# Altium integrated library Texas Instruments Interface 1394.IntLib: 47 symbols (part 4 of 17)
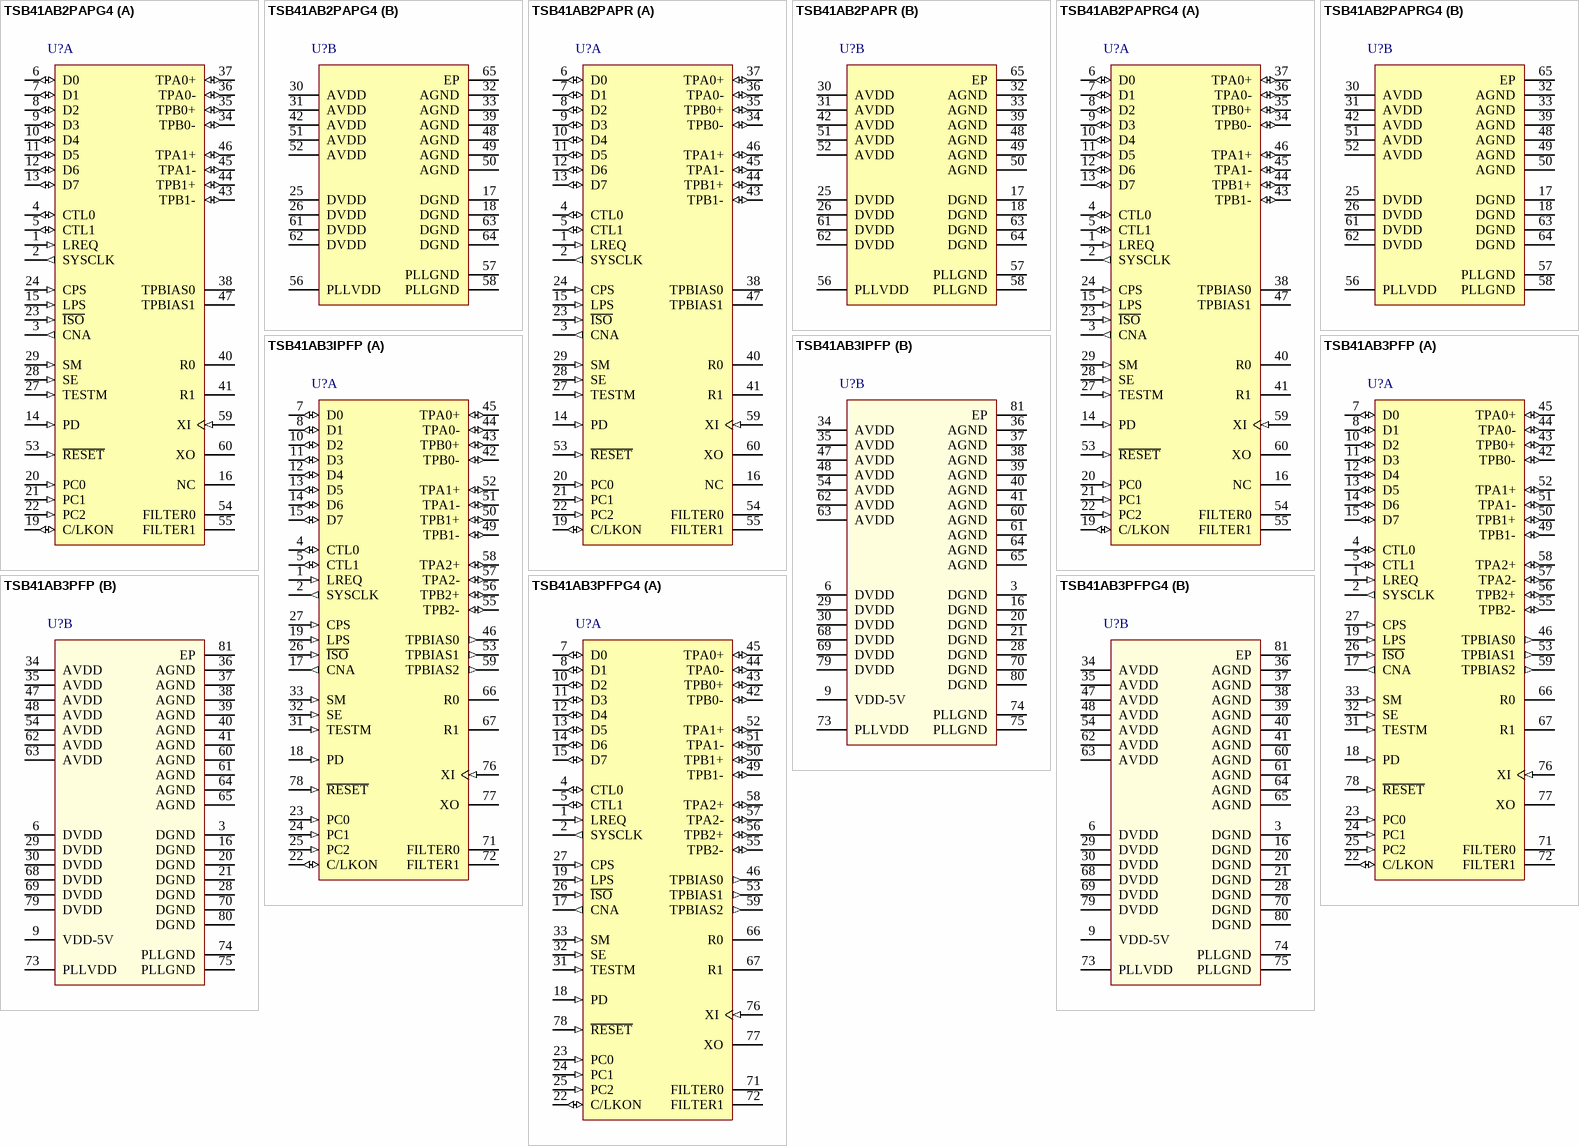
[diagram p14: symbols TSB41AB2PAPG4 to TSB41AB3PFPG4]

## TSB41AB2PAPR
designator U?
400 Mbps IEEE 1394a Two-Port Cable Transceiver / Arbiter, 3.3V, 0 to 70 degC, 64-Pin HTQFP (PAP), Green (RoHS & no Sb/Br); PartNumber: TSB41AB2PAPR; Manufacturer: Texas Instruments; SubFamily: 1394 Physical Layer Controller; Speed(Max)(Mbps): 400; Ports: 2; Supply Voltage(s)(V): 3.3; 1394: True; Rating: Catalog; DatasheetVersion: SLLS424G; PackageVersion: revC, Aug-2003; PackageReference: PAP64-4650X4650TP; PackageDescription: 64-Pin Plastic Quad Flat Pack, 10 x 10 mm Body, 0.5 mm Pitch, Exposed Pad; Mounting Technology: Surface Mount; 1394a: True; Code_JEDEC: MS-026; ComponentLink1Description: Datasheet; ComponentLink1URL: http://www.ti.com/general/docs/lit/getliterature.tsp?genericPartNumber=TSB41AB2&fileType=pdf; ComponentLink2Description: Package Specification; ComponentLink2URL: http://www.ti.com/litv/pdf/mpqf071b
footprint PAP64-4650X4650TP_N (Thin QFP, 64-Leads, Body 10x10mm, Pitch 0.5mm, Thermal Pad 5x5mm, IPC Medium Density)
footprint PAP64-4650X4650TP_L (Thin QFP, 64-Leads, Body 10x10mm, Pitch 0.5mm, Thermal Pad 5x5mm, IPC High Density)
footprint PAP64-4650X4650TP_M (Thin QFP, 64-Leads, Body 10x10mm, Pitch 0.5mm, Thermal Pad 5x5mm, IPC Low Density)
part A pins: 1 LREQ (in) "LLC request input.The LLC uses this input to initiate a service  request to the TSB41AB2.Bus holder is built into this terminal.", 2 SYSCLK (out) "System clock output.Provides a 49.152-MHz clock signal, synchronized with data transfers, to the LLC.", 3 CNA (out) "Cable-not-active output.This terminal is asserted high when there are no ports receiving incoming bias voltage.CNA is not valid at initial power up,until a device hard reset is performed.", 4 CTL0 (io) "Control I/Os.These bidirectional signals control communication between the TSB41AB2 and the LLC. Bus holders are built into these terminals.", 5 CTL1 (io) "Control I/Os.These bidirectional signals control communication between the TSB41AB2 and the LLC. Bus holders are built into these terminals.", 6 D0 (io) "Data I/Os.These are bidirectional data signals between the TSB41AB2 and the LLC.Bus holders are built into these terminals.", 7 D1 (io) "Data I/Os.These are bidirectional data signals between the TSB41AB2 and the LLC.Bus holders are built into these terminals.", 8 D2 (io) "Data I/Os.These are bidirectional data signals between the TSB41AB2 and the LLC.Bus holders are built into these terminals.", 9 D3 (io) "Data I/Os.These are bidirectional data signals between the TSB41AB2 and the LLC.Bus holders are built into these terminals.", 10 D4 (io) "Data I/Os.These are bidirectional data signals between the TSB41AB2 and the LLC.Bus holders are built into these terminals.", 11 D5 (io) "Data I/Os.These are bidirectional data signals between the TSB41AB2 and the LLC.Bus holders are built into these terminals.", 12 D6 (io) "Data I/Os.These are bidirectional data signals between the TSB41AB2 and the LLC.Bus holders are built into these terminals.", 13 D7 (io) "Data I/Os.These are bidirectional data signals between the TSB41AB2 and the LLC.Bus holders are built into these terminals.", 14 PD (in) "Power-down input.A high on this terminal turns off all internal circuitry except the cable-active monitor circuits, which control the CNA output. [see datasheet]", 15 LPS (in) "Link power status input. This terminal is used to monitor the active/power status of the link layer controller and to control the state of the PHY-LLC interface. [see datasheet]", 16 NC "Each of these terminals is not connected to the silicon device.", 19 C/LKON (io) "Bus manager contender programming input and link-on output. On hardware reset, this terminal is used to set the default value of the contender status indicated during self-ID. [see datasheet]", 20 PC0 (in) "Power class programming inputs.On hardware reset, these inputs set the default value of the power class indicated during self-ID. Programming is done by tying these terminals high or low. See Table 9 for encoding.", 21 PC1 (in) "Power class programming inputs.On hardware reset, these inputs set the default value of the power class indicated during self-ID. Programming is done by tying these terminals high or low. See Table 9 for encoding.", 22 PC2 (in) "Power class programming inputs.On hardware reset, these inputs set the default value of the power class indicated during self-ID. Programming is done by tying these terminals high or low. See Table 9 for encoding.", 23 ~{ISO} (in) "Link interface isolation control input.This terminal controls the operation of output differentiation logic on the CTL and D terminals. [see datasheet]", 24 CPS (in) "Cable power status input. This terminal is normally connected to cable power through a 400-k ohm resistor. [see datasheet]", 27 TESTM (in) "Test control input. This input is used in manufacturing test of the TSB41AB2. For normal use this terminal should be tied to VDD through a 1-k ohm resistor.", 28 SE (in) "Test control input. This input is used in manufacturing test of the TSB41AB2. For normal use this terminal may be tied to GND through a 1-k ohm pulldown resistor or it may be tied to GND directly.", 29 SM (in) "Test control input. This input is used in manufacturing test of the TSB41AB2. For normal use this terminal should be tied to GND.", 34 TPB0- (io) "Twisted-pair cable B differential signal terminals. [see datasheet]", 35 TPB0+ (io) "Twisted-pair cable B differential signal terminals. [see datasheet]", 36 TPA0- (io) "Twisted-pair cable A differential signal terminals. [see datasheet]", 37 TPA0+ (io) "Twisted-pair cable A differential signal terminals. [see datasheet]", 38 TPBIAS0 (hiz) "Twisted-pair bias output. [see datasheet]", 40 R0 "Current setting resistor terminals. These terminals are connected through an external resistor to set the internal operating currents and cable driver output currents. [see datasheet]", 41 R1 "Current setting resistor terminals. These terminals are connected through an external resistor to set the internal operating currents and cable driver output currents. [see datasheet]", 43 TPB1- (io) "Twisted-pair cable B differential signal terminals. [see datasheet]", 44 TPB1+ (io) "Twisted-pair cable B differential signal terminals. [see datasheet]", 45 TPA1- (io) "Twisted-pair cable A differential signal terminals. [see datasheet]", 46 TPA1+ (io) "Twisted-pair cable A differential signal terminals. [see datasheet]", 47 TPBIAS1 (hiz) "Twisted-pair bias output. [see datasheet]", 53 ~{RESET} (in) "Logic reset input. Asserting this terminal low resets the internal logic.  [see datasheet]", 54 FILTER0 "PLL filter terminals. [see datasheet]", 55 FILTER1 "PLL filter terminals. [see datasheet]", 59 XI (in) "Crystal oscillator inputs. These terminals connect to a 24.576-MHz parallel resonant fundamental mode crystal. [see datasheet]", 60 XO "Crystal oscillator outputs. These terminals connect to a 24.576-MHz parallel resonant fundamental mode crystal. [see datasheet]"
part B pins: 17 DGND (power) "Digital circuit ground terminals.These terminals should be tied together to the low-impedance circuit board ground plane.", 18 DGND (power) "Digital circuit ground terminals.These terminals should be tied together to the low-impedance circuit board ground plane.", 25 DVDD (power) "Digital circuit power terminals. A combination of high frequency decoupling capacitors near each terminal is suggested, such as paralleled 0.1 uF and 0.001 uF. [see datasheet]", 26 DVDD (power) "Digital circuit power terminals. A combination of high frequency decoupling capacitors near each terminal is suggested, such as paralleled 0.1 uF and 0.001 uF. [see datasheet]", 30 AVDD (power) "Analog circuit power terminals. A combination of high-frequency decoupling capacitors near each terminal are suggested, such as paralleled 0.1 uF and 0.001 uF. [see datasheet]", 31 AVDD (power) "Analog circuit power terminals. A combination of high-frequency decoupling capacitors near each terminal are suggested, such as paralleled 0.1 uF and 0.001 uF. [see datasheet]", 32 AGND (power) "Analog circuit ground terminals.These terminals should be tied together to the low impedance circuit board ground plane.", 33 AGND (power) "Analog circuit ground terminals.These terminals should be tied together to the low impedance circuit board ground plane.", 39 AGND (power) "Analog circuit ground terminals.These terminals should be tied together to the low impedance circuit board ground plane.", 42 AVDD (power) "Analog circuit power terminals. A combination of high-frequency decoupling capacitors near each terminal are suggested, such as paralleled 0.1 uF and 0.001 uF. [see datasheet]", 48 AGND (power) "Analog circuit ground terminals. These terminals should be tied together to the low impedance circuit board ground plane.", 49 AGND (power) "Analog circuit ground terminals. These terminals should be tied together to the low impedance circuit board ground plane.", 50 AGND (power) "Analog circuit ground terminals. These terminals should be tied together to the low impedance circuit board ground plane.", 51 AVDD (power) "Analog circuit power terminals. A combination of high-frequency decoupling capacitors near each terminal are suggested, such as paralleled 0.1 uF and 0.001 uF. [see datasheet]", 52 AVDD (power) "Analog circuit power terminals. A combination of high-frequency decoupling capacitors near each terminal are suggested, such as paralleled 0.1 uF and 0.001 uF. [see datasheet]", 56 PLLVDD (power) "PLL circuit power terminals. A combination of high-frequency decoupling capacitors near each terminal is suggested, such as paralleled 0.1 uF and 0.001 uF. [see datasheet]", 57 PLLGND (power) "PLL circuit ground terminals. These terminals should be tied together to the low-impedance circuit board ground plane.", 58 PLLGND (power) "PLL circuit ground terminals. These terminals should be tied together to the low-impedance circuit board ground plane.", 61 DVDD (power) "Digital circuit power terminals. A combination of high frequency decoupling capacitors near each terminal is suggested, such as paralleled 0.1 uF and 0.001 uF. [see datasheet]", 62 DVDD (power) "Digital circuit power terminals. A combination of high frequency decoupling capacitors near each terminal is suggested, such as paralleled 0.1 uF and 0.001 uF. [see datasheet]", 63 DGND (power) "Digital circuit ground terminals. These terminals should be tied together to the low-impedance circuit board ground plane.", 64 DGND (power) "Digital circuit ground terminals. These terminals should be tied together to the low-impedance circuit board ground plane.", 65 EP "Exposed Thermal Pad"

## TSB41AB2PAPRG4
designator U?
400 Mbps IEEE 1394a Two-Port Cable Transceiver / Arbiter, 3.3V, 0 to 70 degC, 64-Pin HTQFP (PAP), Green (RoHS & no Sb/Br); PartNumber: TSB41AB2PAPRG4; Manufacturer: Texas Instruments; SubFamily: 1394 Physical Layer Controller; Speed(Max)(Mbps): 400; Ports: 2; Supply Voltage(s)(V): 3.3; 1394: True; Rating: Catalog; DatasheetVersion: SLLS424G; PackageVersion: revC, Aug-2003; PackageReference: PAP64-4650X4650TP; PackageDescription: 64-Pin Plastic Quad Flat Pack, 10 x 10 mm Body, 0.5 mm Pitch, Exposed Pad; Mounting Technology: Surface Mount; 1394a: True; Code_JEDEC: MS-026; ComponentLink1Description: Datasheet; ComponentLink1URL: http://www.ti.com/general/docs/lit/getliterature.tsp?genericPartNumber=TSB41AB2&fileType=pdf; ComponentLink2Description: Package Specification; ComponentLink2URL: http://www.ti.com/litv/pdf/mpqf071b
footprint PAP64-4650X4650TP_N (Thin QFP, 64-Leads, Body 10x10mm, Pitch 0.5mm, Thermal Pad 5x5mm, IPC Medium Density)
footprint PAP64-4650X4650TP_L (Thin QFP, 64-Leads, Body 10x10mm, Pitch 0.5mm, Thermal Pad 5x5mm, IPC High Density)
footprint PAP64-4650X4650TP_M (Thin QFP, 64-Leads, Body 10x10mm, Pitch 0.5mm, Thermal Pad 5x5mm, IPC Low Density)
part A pins: 1 LREQ (in) "LLC request input.The LLC uses this input to initiate a service  request to the TSB41AB2.Bus holder is built into this terminal.", 2 SYSCLK (out) "System clock output.Provides a 49.152-MHz clock signal, synchronized with data transfers, to the LLC.", 3 CNA (out) "Cable-not-active output.This terminal is asserted high when there are no ports receiving incoming bias voltage.CNA is not valid at initial power up,until a device hard reset is performed.", 4 CTL0 (io) "Control I/Os.These bidirectional signals control communication between the TSB41AB2 and the LLC. Bus holders are built into these terminals.", 5 CTL1 (io) "Control I/Os.These bidirectional signals control communication between the TSB41AB2 and the LLC. Bus holders are built into these terminals.", 6 D0 (io) "Data I/Os.These are bidirectional data signals between the TSB41AB2 and the LLC.Bus holders are built into these terminals.", 7 D1 (io) "Data I/Os.These are bidirectional data signals between the TSB41AB2 and the LLC.Bus holders are built into these terminals.", 8 D2 (io) "Data I/Os.These are bidirectional data signals between the TSB41AB2 and the LLC.Bus holders are built into these terminals.", 9 D3 (io) "Data I/Os.These are bidirectional data signals between the TSB41AB2 and the LLC.Bus holders are built into these terminals.", 10 D4 (io) "Data I/Os.These are bidirectional data signals between the TSB41AB2 and the LLC.Bus holders are built into these terminals.", 11 D5 (io) "Data I/Os.These are bidirectional data signals between the TSB41AB2 and the LLC.Bus holders are built into these terminals.", 12 D6 (io) "Data I/Os.These are bidirectional data signals between the TSB41AB2 and the LLC.Bus holders are built into these terminals.", 13 D7 (io) "Data I/Os.These are bidirectional data signals between the TSB41AB2 and the LLC.Bus holders are built into these terminals.", 14 PD (in) "Power-down input.A high on this terminal turns off all internal circuitry except the cable-active monitor circuits, which control the CNA output. [see datasheet]", 15 LPS (in) "Link power status input. This terminal is used to monitor the active/power status of the link layer controller and to control the state of the PHY-LLC interface. [see datasheet]", 16 NC "Each of these terminals is not connected to the silicon device.", 19 C/LKON (io) "Bus manager contender programming input and link-on output. On hardware reset, this terminal is used to set the default value of the contender status indicated during self-ID. [see datasheet]", 20 PC0 (in) "Power class programming inputs.On hardware reset, these inputs set the default value of the power class indicated during self-ID. Programming is done by tying these terminals high or low. See Table 9 for encoding.", 21 PC1 (in) "Power class programming inputs.On hardware reset, these inputs set the default value of the power class indicated during self-ID. Programming is done by tying these terminals high or low. See Table 9 for encoding.", 22 PC2 (in) "Power class programming inputs.On hardware reset, these inputs set the default value of the power class indicated during self-ID. Programming is done by tying these terminals high or low. See Table 9 for encoding.", 23 ~{ISO} (in) "Link interface isolation control input.This terminal controls the operation of output differentiation logic on the CTL and D terminals. [see datasheet]", 24 CPS (in) "Cable power status input. This terminal is normally connected to cable power through a 400-k ohm resistor. [see datasheet]", 27 TESTM (in) "Test control input. This input is used in manufacturing test of the TSB41AB2. For normal use this terminal should be tied to VDD through a 1-k ohm resistor.", 28 SE (in) "Test control input. This input is used in manufacturing test of the TSB41AB2. For normal use this terminal may be tied to GND through a 1-k ohm pulldown resistor or it may be tied to GND directly.", 29 SM (in) "Test control input. This input is used in manufacturing test of the TSB41AB2. For normal use this terminal should be tied to GND.", 34 TPB0- (io) "Twisted-pair cable B differential signal terminals. [see datasheet]", 35 TPB0+ (io) "Twisted-pair cable B differential signal terminals. [see datasheet]", 36 TPA0- (io) "Twisted-pair cable A differential signal terminals. [see datasheet]", 37 TPA0+ (io) "Twisted-pair cable A differential signal terminals. [see datasheet]", 38 TPBIAS0 (hiz) "Twisted-pair bias output. [see datasheet]", 40 R0 "Current setting resistor terminals. These terminals are connected through an external resistor to set the internal operating currents and cable driver output currents. [see datasheet]", 41 R1 "Current setting resistor terminals. These terminals are connected through an external resistor to set the internal operating currents and cable driver output currents. [see datasheet]", 43 TPB1- (io) "Twisted-pair cable B differential signal terminals. [see datasheet]", 44 TPB1+ (io) "Twisted-pair cable B differential signal terminals. [see datasheet]", 45 TPA1- (io) "Twisted-pair cable A differential signal terminals. [see datasheet]", 46 TPA1+ (io) "Twisted-pair cable A differential signal terminals. [see datasheet]", 47 TPBIAS1 (hiz) "Twisted-pair bias output. [see datasheet]", 53 ~{RESET} (in) "Logic reset input. Asserting this terminal low resets the internal logic.  [see datasheet]", 54 FILTER0 "PLL filter terminals. [see datasheet]", 55 FILTER1 "PLL filter terminals. [see datasheet]", 59 XI (in) "Crystal oscillator inputs. These terminals connect to a 24.576-MHz parallel resonant fundamental mode crystal. [see datasheet]", 60 XO "Crystal oscillator outputs. These terminals connect to a 24.576-MHz parallel resonant fundamental mode crystal. [see datasheet]"
part B pins: 17 DGND (power) "Digital circuit ground terminals.These terminals should be tied together to the low-impedance circuit board ground plane.", 18 DGND (power) "Digital circuit ground terminals.These terminals should be tied together to the low-impedance circuit board ground plane.", 25 DVDD (power) "Digital circuit power terminals. A combination of high frequency decoupling capacitors near each terminal is suggested, such as paralleled 0.1 uF and 0.001 uF. [see datasheet]", 26 DVDD (power) "Digital circuit power terminals. A combination of high frequency decoupling capacitors near each terminal is suggested, such as paralleled 0.1 uF and 0.001 uF. [see datasheet]", 30 AVDD (power) "Analog circuit power terminals. A combination of high-frequency decoupling capacitors near each terminal are suggested, such as paralleled 0.1 uF and 0.001 uF. [see datasheet]", 31 AVDD (power) "Analog circuit power terminals. A combination of high-frequency decoupling capacitors near each terminal are suggested, such as paralleled 0.1 uF and 0.001 uF. [see datasheet]", 32 AGND (power) "Analog circuit ground terminals.These terminals should be tied together to the low impedance circuit board ground plane.", 33 AGND (power) "Analog circuit ground terminals.These terminals should be tied together to the low impedance circuit board ground plane.", 39 AGND (power) "Analog circuit ground terminals.These terminals should be tied together to the low impedance circuit board ground plane.", 42 AVDD (power) "Analog circuit power terminals. A combination of high-frequency decoupling capacitors near each terminal are suggested, such as paralleled 0.1 uF and 0.001 uF. [see datasheet]", 48 AGND (power) "Analog circuit ground terminals. These terminals should be tied together to the low impedance circuit board ground plane.", 49 AGND (power) "Analog circuit ground terminals. These terminals should be tied together to the low impedance circuit board ground plane.", 50 AGND (power) "Analog circuit ground terminals. These terminals should be tied together to the low impedance circuit board ground plane.", 51 AVDD (power) "Analog circuit power terminals. A combination of high-frequency decoupling capacitors near each terminal are suggested, such as paralleled 0.1 uF and 0.001 uF. [see datasheet]", 52 AVDD (power) "Analog circuit power terminals. A combination of high-frequency decoupling capacitors near each terminal are suggested, such as paralleled 0.1 uF and 0.001 uF. [see datasheet]", 56 PLLVDD (power) "PLL circuit power terminals. A combination of high-frequency decoupling capacitors near each terminal is suggested, such as paralleled 0.1 uF and 0.001 uF. [see datasheet]", 57 PLLGND (power) "PLL circuit ground terminals. These terminals should be tied together to the low-impedance circuit board ground plane.", 58 PLLGND (power) "PLL circuit ground terminals. These terminals should be tied together to the low-impedance circuit board ground plane.", 61 DVDD (power) "Digital circuit power terminals. A combination of high frequency decoupling capacitors near each terminal is suggested, such as paralleled 0.1 uF and 0.001 uF. [see datasheet]", 62 DVDD (power) "Digital circuit power terminals. A combination of high frequency decoupling capacitors near each terminal is suggested, such as paralleled 0.1 uF and 0.001 uF. [see datasheet]", 63 DGND (power) "Digital circuit ground terminals. These terminals should be tied together to the low-impedance circuit board ground plane.", 64 DGND (power) "Digital circuit ground terminals. These terminals should be tied together to the low-impedance circuit board ground plane.", 65 EP "Exposed Thermal Pad"

## TSB41AB3IPFP
designator U?
400 Mbps IEEE 1394a Three-Port Cable Transceiver / Arbiter, 3.3V, -40 to 85 degC, 80-Pin HTQFP (PFP); PartNumber: TSB41AB3IPFP; Manufacturer: Texas Instruments; SubFamily: 1394 Physical Layer Controller; Speed(Max)(Mbps): 400; Ports: 3; Supply Voltage(s)(V): 3.3; 1394: True; Rating: Catalog; DatasheetVersion: SLLS418I; PackageVersion: revC, Jul-2011; PackageReference: PFP80-5450X5450TP; PackageDescription: 80-Pin Plastic Quad Flat Pack PowerPAD; Mounting Technology: Surface Mount; 1394a: True; Code_JEDEC: MS-026; ComponentLink1Description: Datasheet; ComponentLink1URL: http://www.ti.com/general/docs/lit/getliterature.tsp?genericPartNumber=TSB41AB3&fileType=pdf; ComponentLink2Description: Package Specification; ComponentLink2URL: http://www.ti.com/lit/ml/mpqf049b/mpqf049b.pdf
footprint PFP80-5450X5450TP_N (Thin QFP, 80-Leads, Body 12x12mm, Pitch 0.5mm, IPC Medium Density)
footprint PFP80-5450X5450TP_L (Thin QFP, 80-Leads, Body 12x12mm, Pitch 0.5mm, IPC High Density)
footprint PFP80-5450X5450TP_M (Thin QFP, 80-Leads, Body 12x12mm, Pitch 0.5mm, IPC Low Density)
part A pins: 1 LREQ (in) "LLC request input. The LLC uses this input to initiate a service request to the TSB41AB3. Bus holder is built into this terminal.", 2 SYSCLK (out) "System clock output. Provides a 49.152-MHz clock signal, synchronized with data transfers, to the LLC.", 4 CTL0 (io) "Control I/Os. These bidirectional signals control communication between the TSB41AB3 and the LLC.Bus holders are built into these terminals.", 5 CTL1 (io) "Control I/Os. These bidirectional signals control communication between the TSB41AB3 and the LLC.Bus holders are built into these terminals.", 7 D0 (io) "Data I/Os. These are bidirectional data signals between the TSB41AB3 and the LLC. Bus holders are built into these terminals.", 8 D1 (io) "Data I/Os. These are bidirectional data signals between the TSB41AB3 and the LLC. Bus holders are built into these terminals.", 10 D2 (io) "Data I/Os. These are bidirectional data signals between the TSB41AB3 and the LLC. Bus holders are built into these terminals.", 11 D3 (io) "Data I/Os. These are bidirectional data signals between the TSB41AB3 and the LLC. Bus holders are built into these terminals.", 12 D4 (io) "Data I/Os. These are bidirectional data signals between the TSB41AB3 and the LLC. Bus holders are built into these terminals.", 13 D5 (io) "Data I/Os. These are bidirectional data signals between the TSB41AB3 and the LLC. Bus holders are built into these terminals.", 14 D6 (io) "Data I/Os. These are bidirectional data signals between the TSB41AB3 and the LLC. Bus holders are built into these terminals.", 15 D7 (io) "Data I/Os. These are bidirectional data signals between the TSB41AB3 and the LLC. Bus holders are built into these terminals.", 17 CNA (out) "Cable not active output. This terminal is asserted high when there are no ports receiving incoming bias voltage.", 18 PD (in) "Power-down input. A high on this terminal turns off all internal circuitry except the cable-active monitor circuits, which control the CNA output. [see datasheet]", 19 LPS (in) "Link power status input. This terminal is used to monitor the active/power status of the link layer controller and to control the state of the PHY-LLC interface. [see datasheet]", 22 C/LKON (io) "Bus manager contender programming input and link-on output. On hardware reset, this terminal is used to set the default value of the contender status indicated during self-ID. [see datasheet]", 23 PC0 (in) "Power class programming inputs. On hardware reset, these inputs set the default value of the power class indicated during self-ID. [see datasheet]", 24 PC1 (in) "Power class programming inputs. On hardware reset, these inputs set the default value of the power class indicated during self-ID. [see datasheet]", 25 PC2 (in) "Power class programming inputs. On hardware reset, these inputs set the default value of the power class indicated during self-ID. [see datasheet]", 26 ~{ISO} (in) "Link interface isolation control input. This terminal controls the operation of output differentiation logic on the CTL and D terminals. [see datasheet]", 27 CPS (in) "Cable power status input. This terminal is normally connected to cable power through a 400-k ohm resistor. [see datasheet]", 31 TESTM (in) "Test control input. This input is used in the manufacturing test of the TSB41AB3. For normal use this terminal is tied to VDD through a 1-kohm resistor.", 32 SE (in) "Test control input. This input is used in manufacturing test of the TSB41AB3. For normal use this terminal is tied to GND through a 1-k ohm pulldown resistor.", 33 SM (in) "Test control input. This input is used in the manufacturing test of the TSB41AB3. For normal use this terminal is tied to GND", 42 TPB0- (io) "Twisted-pair cable B differential-signal terminals. [see datasheet]", 43 TPB0+ (io) "Twisted-pair cable B differential-signal terminals. [see datasheet]", 44 TPA0- (io) "Twisted-pair cable A differential-signal terminals. [see datasheet]", 45 TPA0+ (io) "Twisted-pair cable A differential-signal terminals. [see datasheet]", 46 TPBIAS0 (out) "Twisted-pair bias output. This provides the 1. [see datasheet]", 49 TPB1- (io) "Twisted-pair cable B differential-signal terminals. [see datasheet]", 50 TPB1+ (io) "Twisted-pair cable B differential-signal terminals. [see datasheet]", 51 TPA1- (io) "Twisted-pair cable A differential-signal terminals. [see datasheet]", 52 TPA1+ (io) "Twisted-pair cable A differential-signal terminals. [see datasheet]", 53 TPBIAS1 (out) "Twisted-pair bias output. This provides the 1. [see datasheet]", 55 TPB2- (io) "Twisted-pair cable B differential-signal terminals. [see datasheet]", 56 TPB2+ (io) "Twisted-pair cable B differential-signal terminals. [see datasheet]", 57 TPA2- (io) "Twisted-pair cable A differential-signal terminals. [see datasheet]", 58 TPA2+ (io) "Twisted-pair cable A differential-signal terminals. [see datasheet]", 59 TPBIAS2 (out) "Twisted-pair bias output. This provides the 1. [see datasheet]", 66 R0 "Current setting resistor terminals. These terminals are connected to an external resistance to set the internal operating currents and cable driver output currents. A resistance of 6. [see datasheet]", 67 R1 "Current setting resistor terminals. These terminals are connected to an external resistance to set the internal operating currents and cable driver output currents. A resistance of 6. [see datasheet]", 71 FILTER0 "PLL filter terminals. [see datasheet]", 72 FILTER1 "PLL filter terminals. [see datasheet]", 76 XI (in) "Crystal oscillator inputs. These terminals connect to a 24.576-MHz parallel resonant fundamental mode crystal. [see datasheet]", 77 XO "Crystal oscillator outputs. These terminals connect to a 24.576-MHz parallel resonant fundamental mode crystal. [see datasheet]", 78 ~{RESET} (in) "Logic reset input. Asserting this terminal low resets the internal logic. [see datasheet]"
part B pins: 3 DGND (power) "Digital circuit ground terminals. These terminals must be tied together to a low-impedance point on the circuit board ground plane.", 6 DVDD (power) "Digital circuit power terminals. A combination of high-frequency decoupling capacitors near each terminal is suggested, such as paralleled 0.1 uF and 0.001 µF. [see datasheet]", 9 VDD-5V (power) "5-V VDD terminal. This terminal must be connected to the LLC VDD supply when a 5-V LLC is used, and connected to the PHY DVDD when a 3-V LLC is used. [see datasheet]", 16 DGND (power) "Digital circuit ground terminals. These terminals must be tied together to a low-impedance point on the circuit board ground plane.", 20 DGND (power) "Digital circuit ground terminals. These terminals must be tied together to a low-impedance point on the circuit board ground plane.", 21 DGND (power) "Digital circuit ground terminals. These terminals must be tied together to a low-impedance point on the circuit board ground plane.", 28 DGND (power) "Digital circuit ground terminals. These terminals must be tied together to a low-impedance point on the circuit board ground plane.", 29 DVDD (power) "Digital circuit power terminals. A combination of high-frequency decoupling capacitors near each terminal is suggested, such as paralleled 0.1 uF and 0.001 µF. [see datasheet]", 30 DVDD (power) "Digital circuit power terminals. A combination of high-frequency decoupling capacitors near each terminal is suggested, such as paralleled 0.1 uF and 0.001 µF. [see datasheet]", 34 AVDD (power) "Analog circuit power terminals. A combination of high-frequency decoupling capacitors near each terminal are suggested, such as paralleled 0.1 uF and 0.001 uF. [see datasheet]", 35 AVDD (power) "Analog circuit power terminals. A combination of high-frequency decoupling capacitors near each terminal are suggested, such as paralleled 0.1 uF and 0.001 uF. [see datasheet]", 36 AGND (power) "Analog circuit ground terminals. These terminals must be tied together to the low-impedance circuit board ground plane.", 37 AGND (power) "Analog circuit ground terminals. These terminals must be tied together to the low-impedance circuit board ground plane.", 38 AGND (power) "Analog circuit ground terminals. These terminals must be tied together to the low-impedance circuit board ground plane.", 39 AGND (power) "Analog circuit ground terminals. These terminals must be tied together to the low-impedance circuit board ground plane.", 40 AGND (power) "Analog circuit ground terminals. These terminals must be tied together to the low-impedance circuit board ground plane.", 41 AGND (power) "Analog circuit ground terminals. These terminals must be tied together to the low-impedance circuit board ground plane.", 47 AVDD (power) "Analog circuit power terminals. A combination of high-frequency decoupling capacitors near each terminal are suggested, such as paralleled 0.1 uF and 0.001 uF. [see datasheet]", 48 AVDD (power) "Analog circuit power terminals. A combination of high-frequency decoupling capacitors near each terminal are suggested, such as paralleled 0.1 uF and 0.001 uF. [see datasheet]", 54 AVDD (power) "Analog circuit power terminals. A combination of high-frequency decoupling capacitors near each terminal are suggested, such as paralleled 0.1 uF and 0.001 uF. [see datasheet]", 60 AGND (power) "Analog circuit ground terminals. These terminals must be tied together to the low-impedance circuit board ground plane.", 61 AGND (power) "Analog circuit ground terminals. These terminals must be tied together to the low-impedance circuit board ground plane.", 62 AVDD (power) "Analog circuit power terminals. A combination of high-frequency decoupling capacitors near each terminal are suggested, such as paralleled 0.1 uF and 0.001 uF. [see datasheet]", 63 AVDD (power) "Analog circuit power terminals. A combination of high-frequency decoupling capacitors near each terminal are suggested, such as paralleled 0.1 uF and 0.001 uF. [see datasheet]", 64 AGND (power) "Analog circuit ground terminals. These terminals must be tied together to the low-impedance circuit board ground plane.", 65 AGND (power) "Analog circuit ground terminals. These terminals must be tied together to the low-impedance circuit board ground plane.", 68 DVDD (power) "Digital circuit power terminals. A combination of high-frequency decoupling capacitors near each terminal is suggested, such as paralleled 0.1 uF and 0.001 µF. [see datasheet]", 69 DVDD (power) "Digital circuit power terminals. A combination of high-frequency decoupling capacitors near each terminal is suggested, such as paralleled 0.1 uF and 0.001 µF. [see datasheet]", 70 DGND (power) "Digital circuit ground terminals. These terminals must be tied together to a low-impedance point on the circuit board ground plane.", 73 PLLVDD (power) "PLL circuit power terminals. A combination of high-frequency decoupling capacitors near each terminal are suggested, such as paralleled 0.1 uF and 0.001 uF. [see datasheet]", 74 PLLGND (power) "Digital circuit ground terminals. These terminals must be tied together to a low-impedance point on the circuit board ground plane.", 75 PLLGND (power) "Digital circuit ground terminals. These terminals must be tied together to a low-impedance point on the circuit board ground plane.", 79 DVDD (power) "Digital circuit power terminals. A combination of high-frequency decoupling capacitors near each terminal is suggested, such as paralleled 0.1 uF and 0.001 µF. [see datasheet]", 80 DGND (power) "Digital circuit ground terminals. These terminals must be tied together to a low-impedance point on the circuit board ground plane.", 81 EP (power) "Exposed Thermal Pad"

## TSB41AB3PFP
designator U?
400 Mbps IEEE 1394a Three-Port Cable Transceiver / Arbiter, 3.3V, 0 to 70 degC, 80-Pin HTQFP (PFP), Green (RoHS & no Sb/Br); PartNumber: TSB41AB3PFP; Manufacturer: Texas Instruments; SubFamily: 1394 Physical Layer Controller; Speed(Max)(Mbps): 400; Ports: 3; Supply Voltage(s)(V): 3.3; 1394: True; Rating: Catalog; DatasheetVersion: SLLS418I; PackageVersion: revC, Jul-2011; PackageReference: PFP80-5450X5450TP; PackageDescription: 80-Pin Plastic Quad Flat Pack PowerPAD; Mounting Technology: Surface Mount; 1394a: True; Code_JEDEC: MS-026; ComponentLink1Description: Datasheet; ComponentLink1URL: http://www.ti.com/general/docs/lit/getliterature.tsp?genericPartNumber=TSB41AB3&fileType=pdf; ComponentLink2Description: Package Specification; ComponentLink2URL: http://www.ti.com/lit/ml/mpqf049b/mpqf049b.pdf
footprint PFP80-5450X5450TP_N (Thin QFP, 80-Leads, Body 12x12mm, Pitch 0.5mm, IPC Medium Density)
footprint PFP80-5450X5450TP_L (Thin QFP, 80-Leads, Body 12x12mm, Pitch 0.5mm, IPC High Density)
footprint PFP80-5450X5450TP_M (Thin QFP, 80-Leads, Body 12x12mm, Pitch 0.5mm, IPC Low Density)
part A pins: 1 LREQ (in) "LLC request input. The LLC uses this input to initiate a service request to the TSB41AB3. Bus holder is built into this terminal.", 2 SYSCLK (out) "System clock output. Provides a 49.152-MHz clock signal, synchronized with data transfers, to the LLC.", 4 CTL0 (io) "Control I/Os. These bidirectional signals control communication between the TSB41AB3 and the LLC.Bus holders are built into these terminals.", 5 CTL1 (io) "Control I/Os. These bidirectional signals control communication between the TSB41AB3 and the LLC.Bus holders are built into these terminals.", 7 D0 (io) "Data I/Os. These are bidirectional data signals between the TSB41AB3 and the LLC. Bus holders are built into these terminals.", 8 D1 (io) "Data I/Os. These are bidirectional data signals between the TSB41AB3 and the LLC. Bus holders are built into these terminals.", 10 D2 (io) "Data I/Os. These are bidirectional data signals between the TSB41AB3 and the LLC. Bus holders are built into these terminals.", 11 D3 (io) "Data I/Os. These are bidirectional data signals between the TSB41AB3 and the LLC. Bus holders are built into these terminals.", 12 D4 (io) "Data I/Os. These are bidirectional data signals between the TSB41AB3 and the LLC. Bus holders are built into these terminals.", 13 D5 (io) "Data I/Os. These are bidirectional data signals between the TSB41AB3 and the LLC. Bus holders are built into these terminals.", 14 D6 (io) "Data I/Os. These are bidirectional data signals between the TSB41AB3 and the LLC. Bus holders are built into these terminals.", 15 D7 (io) "Data I/Os. These are bidirectional data signals between the TSB41AB3 and the LLC. Bus holders are built into these terminals.", 17 CNA (out) "Cable not active output. This terminal is asserted high when there are no ports receiving incoming bias voltage.", 18 PD (in) "Power-down input. A high on this terminal turns off all internal circuitry except the cable-active monitor circuits, which control the CNA output. [see datasheet]", 19 LPS (in) "Link power status input. This terminal is used to monitor the active/power status of the link layer controller and to control the state of the PHY-LLC interface. [see datasheet]", 22 C/LKON (io) "Bus manager contender programming input and link-on output. On hardware reset, this terminal is used to set the default value of the contender status indicated during self-ID. [see datasheet]", 23 PC0 (in) "Power class programming inputs. On hardware reset, these inputs set the default value of the power class indicated during self-ID. [see datasheet]", 24 PC1 (in) "Power class programming inputs. On hardware reset, these inputs set the default value of the power class indicated during self-ID. [see datasheet]", 25 PC2 (in) "Power class programming inputs. On hardware reset, these inputs set the default value of the power class indicated during self-ID. [see datasheet]", 26 ~{ISO} (in) "Link interface isolation control input. This terminal controls the operation of output differentiation logic on the CTL and D terminals. [see datasheet]", 27 CPS (in) "Cable power status input. This terminal is normally connected to cable power through a 400-k ohm resistor. [see datasheet]", 31 TESTM (in) "Test control input. This input is used in the manufacturing test of the TSB41AB3. For normal use this terminal is tied to VDD through a 1-kohm resistor.", 32 SE (in) "Test control input. This input is used in manufacturing test of the TSB41AB3. For normal use this terminal is tied to GND through a 1-k ohm pulldown resistor.", 33 SM (in) "Test control input. This input is used in the manufacturing test of the TSB41AB3. For normal use this terminal is tied to GND", 42 TPB0- (io) "Twisted-pair cable B differential-signal terminals. [see datasheet]", 43 TPB0+ (io) "Twisted-pair cable B differential-signal terminals. [see datasheet]", 44 TPA0- (io) "Twisted-pair cable A differential-signal terminals. [see datasheet]", 45 TPA0+ (io) "Twisted-pair cable A differential-signal terminals. [see datasheet]", 46 TPBIAS0 (out) "Twisted-pair bias output. This provides the 1. [see datasheet]", 49 TPB1- (io) "Twisted-pair cable B differential-signal terminals. [see datasheet]", 50 TPB1+ (io) "Twisted-pair cable B differential-signal terminals. [see datasheet]", 51 TPA1- (io) "Twisted-pair cable A differential-signal terminals. [see datasheet]", 52 TPA1+ (io) "Twisted-pair cable A differential-signal terminals. [see datasheet]", 53 TPBIAS1 (out) "Twisted-pair bias output. This provides the 1. [see datasheet]", 55 TPB2- (io) "Twisted-pair cable B differential-signal terminals. [see datasheet]", 56 TPB2+ (io) "Twisted-pair cable B differential-signal terminals. [see datasheet]", 57 TPA2- (io) "Twisted-pair cable A differential-signal terminals. [see datasheet]", 58 TPA2+ (io) "Twisted-pair cable A differential-signal terminals. [see datasheet]", 59 TPBIAS2 (out) "Twisted-pair bias output. This provides the 1. [see datasheet]", 66 R0 "Current setting resistor terminals. These terminals are connected to an external resistance to set the internal operating currents and cable driver output currents. A resistance of 6. [see datasheet]", 67 R1 "Current setting resistor terminals. These terminals are connected to an external resistance to set the internal operating currents and cable driver output currents. A resistance of 6. [see datasheet]", 71 FILTER0 "PLL filter terminals. [see datasheet]", 72 FILTER1 "PLL filter terminals. [see datasheet]", 76 XI (in) "Crystal oscillator inputs. These terminals connect to a 24.576-MHz parallel resonant fundamental mode crystal. [see datasheet]", 77 XO "Crystal oscillator outputs. These terminals connect to a 24.576-MHz parallel resonant fundamental mode crystal. [see datasheet]", 78 ~{RESET} (in) "Logic reset input. Asserting this terminal low resets the internal logic. [see datasheet]"
part B pins: 3 DGND (power) "Digital circuit ground terminals. These terminals must be tied together to a low-impedance point on the circuit board ground plane.", 6 DVDD (power) "Digital circuit power terminals. A combination of high-frequency decoupling capacitors near each terminal is suggested, such as paralleled 0.1 uF and 0.001 µF. [see datasheet]", 9 VDD-5V (power) "5-V VDD terminal. This terminal must be connected to the LLC VDD supply when a 5-V LLC is used, and connected to the PHY DVDD when a 3-V LLC is used. [see datasheet]", 16 DGND (power) "Digital circuit ground terminals. These terminals must be tied together to a low-impedance point on the circuit board ground plane.", 20 DGND (power) "Digital circuit ground terminals. These terminals must be tied together to a low-impedance point on the circuit board ground plane.", 21 DGND (power) "Digital circuit ground terminals. These terminals must be tied together to a low-impedance point on the circuit board ground plane.", 28 DGND (power) "Digital circuit ground terminals. These terminals must be tied together to a low-impedance point on the circuit board ground plane.", 29 DVDD (power) "Digital circuit power terminals. A combination of high-frequency decoupling capacitors near each terminal is suggested, such as paralleled 0.1 uF and 0.001 µF. [see datasheet]", 30 DVDD (power) "Digital circuit power terminals. A combination of high-frequency decoupling capacitors near each terminal is suggested, such as paralleled 0.1 uF and 0.001 µF. [see datasheet]", 34 AVDD (power) "Analog circuit power terminals. A combination of high-frequency decoupling capacitors near each terminal are suggested, such as paralleled 0.1 uF and 0.001 uF. [see datasheet]", 35 AVDD (power) "Analog circuit power terminals. A combination of high-frequency decoupling capacitors near each terminal are suggested, such as paralleled 0.1 uF and 0.001 uF. [see datasheet]", 36 AGND (power) "Analog circuit ground terminals. These terminals must be tied together to the low-impedance circuit board ground plane.", 37 AGND (power) "Analog circuit ground terminals. These terminals must be tied together to the low-impedance circuit board ground plane.", 38 AGND (power) "Analog circuit ground terminals. These terminals must be tied together to the low-impedance circuit board ground plane.", 39 AGND (power) "Analog circuit ground terminals. These terminals must be tied together to the low-impedance circuit board ground plane.", 40 AGND (power) "Analog circuit ground terminals. These terminals must be tied together to the low-impedance circuit board ground plane.", 41 AGND (power) "Analog circuit ground terminals. These terminals must be tied together to the low-impedance circuit board ground plane.", 47 AVDD (power) "Analog circuit power terminals. A combination of high-frequency decoupling capacitors near each terminal are suggested, such as paralleled 0.1 uF and 0.001 uF. [see datasheet]", 48 AVDD (power) "Analog circuit power terminals. A combination of high-frequency decoupling capacitors near each terminal are suggested, such as paralleled 0.1 uF and 0.001 uF. [see datasheet]", 54 AVDD (power) "Analog circuit power terminals. A combination of high-frequency decoupling capacitors near each terminal are suggested, such as paralleled 0.1 uF and 0.001 uF. [see datasheet]", 60 AGND (power) "Analog circuit ground terminals. These terminals must be tied together to the low-impedance circuit board ground plane.", 61 AGND (power) "Analog circuit ground terminals. These terminals must be tied together to the low-impedance circuit board ground plane.", 62 AVDD (power) "Analog circuit power terminals. A combination of high-frequency decoupling capacitors near each terminal are suggested, such as paralleled 0.1 uF and 0.001 uF. [see datasheet]", 63 AVDD (power) "Analog circuit power terminals. A combination of high-frequency decoupling capacitors near each terminal are suggested, such as paralleled 0.1 uF and 0.001 uF. [see datasheet]", 64 AGND (power) "Analog circuit ground terminals. These terminals must be tied together to the low-impedance circuit board ground plane.", 65 AGND (power) "Analog circuit ground terminals. These terminals must be tied together to the low-impedance circuit board ground plane.", 68 DVDD (power) "Digital circuit power terminals. A combination of high-frequency decoupling capacitors near each terminal is suggested, such as paralleled 0.1 uF and 0.001 µF. [see datasheet]", 69 DVDD (power) "Digital circuit power terminals. A combination of high-frequency decoupling capacitors near each terminal is suggested, such as paralleled 0.1 uF and 0.001 µF. [see datasheet]", 70 DGND (power) "Digital circuit ground terminals. These terminals must be tied together to a low-impedance point on the circuit board ground plane.", 73 PLLVDD (power) "PLL circuit power terminals. A combination of high-frequency decoupling capacitors near each terminal are suggested, such as paralleled 0.1 uF and 0.001 uF. [see datasheet]", 74 PLLGND (power) "Digital circuit ground terminals. These terminals must be tied together to a low-impedance point on the circuit board ground plane.", 75 PLLGND (power) "Digital circuit ground terminals. These terminals must be tied together to a low-impedance point on the circuit board ground plane.", 79 DVDD (power) "Digital circuit power terminals. A combination of high-frequency decoupling capacitors near each terminal is suggested, such as paralleled 0.1 uF and 0.001 µF. [see datasheet]", 80 DGND (power) "Digital circuit ground terminals. These terminals must be tied together to a low-impedance point on the circuit board ground plane.", 81 EP (power) "Exposed Thermal Pad"